# Altium footprint library pqm_v2_lib_footprints.PcbLib: 44 footprints (part 1 of 3)
Each footprint in its own frame and in the unit in brackets; x right, y up, seen from the top. Pads: shape width x height; smd on the part's side, far side on the other; paste and mask are expansions set on the pad; w line width, h text height; cw(c..) or ccw(c..) is an arc to the next point about the centre after c.
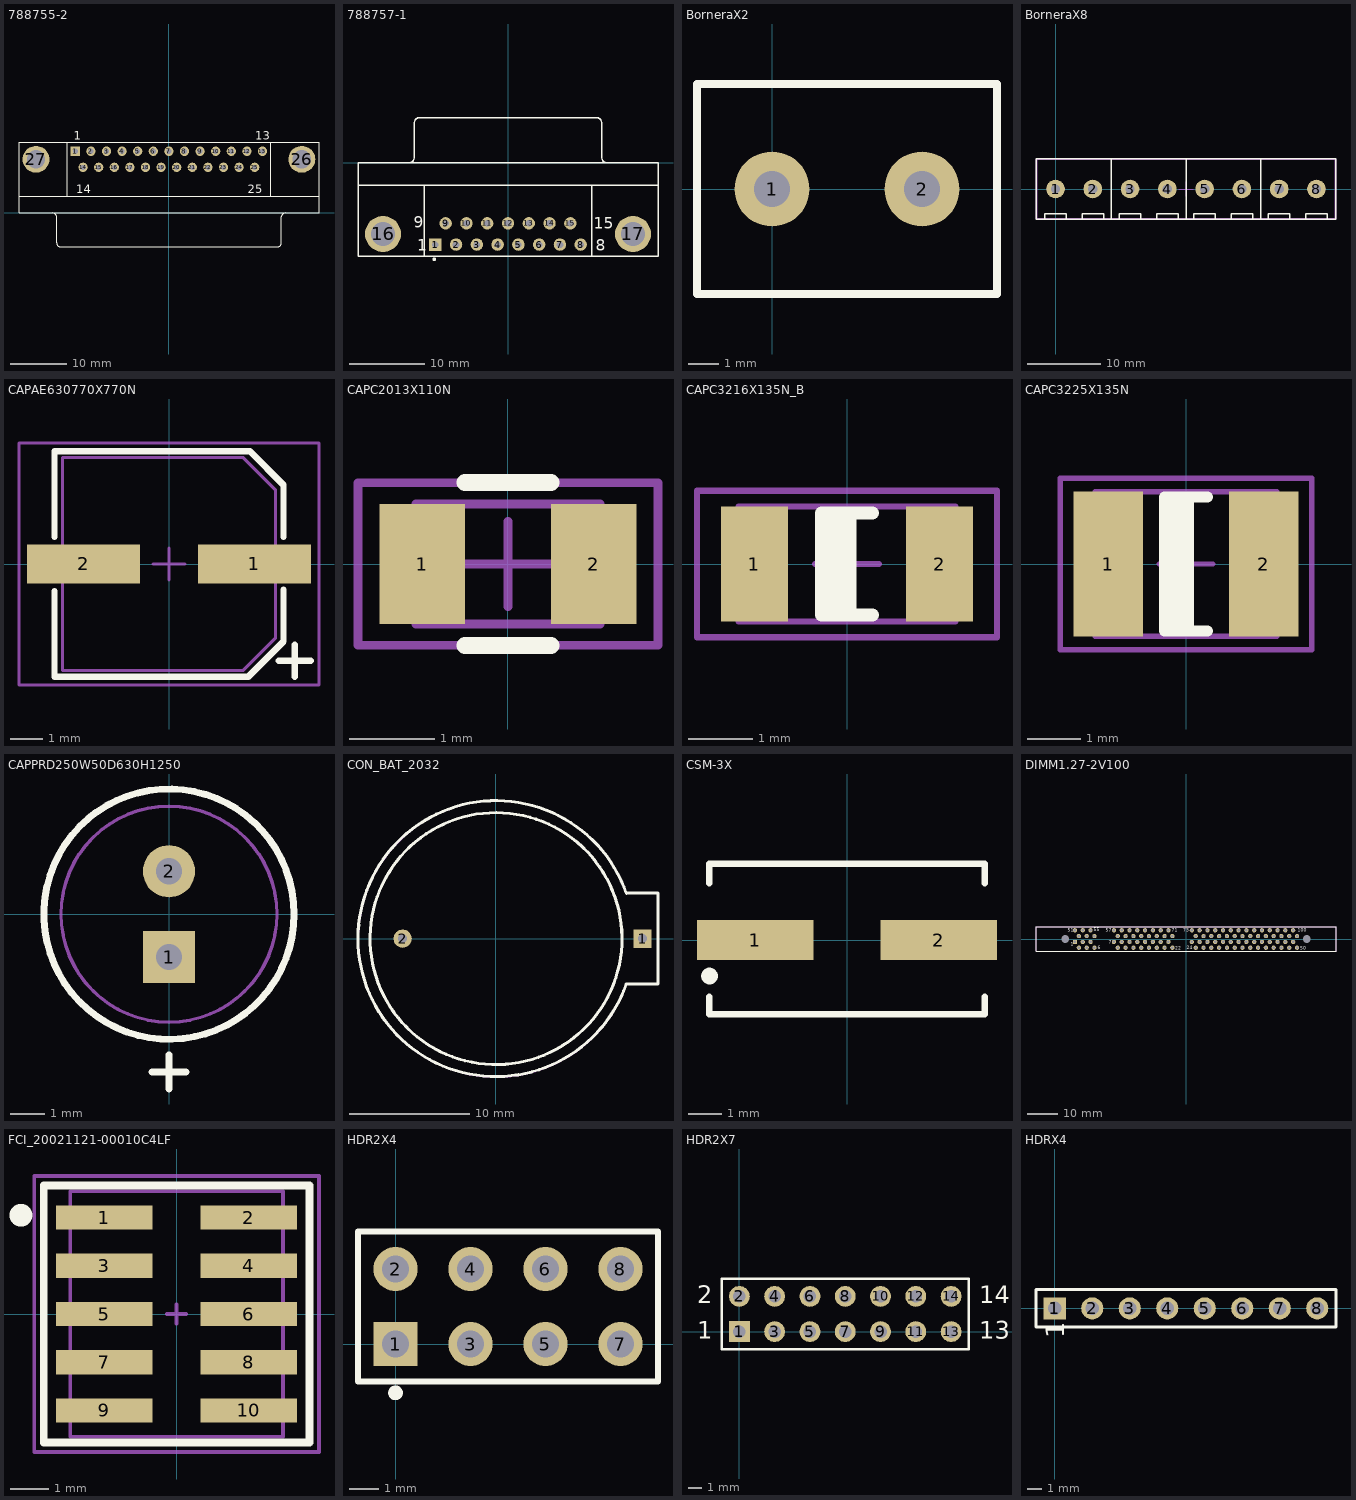
[diagram p0: the footprints below, top view; thin cyan lines are the x and y axes]

## 788755-2 [mil] "Connector; D Subminiature AMPLIMITE 2000; 25 Position; Right Angle"
height 501.97
pads (27):
  rect 65x65 hole 35: 1(-652.2,429.92)
  round 65 hole 35: 2(-543.5,429.92) 3(-434.8,429.92) 4(-326.1,429.92) 5(-217.4,429.92) 6(-108.7,429.92) 7(0,429.92) 8(108.7,429.92) 9(217.4,429.92) 10(326.1,429.92) 11(434.8,429.92) 12(543.5,429.92) 13(652.2,429.92) 14(-597.85,318.11) 15(-489.15,318.11) 16(-380.45,318.11) 17(-271.75,318.11) 18(-163.05,318.11) 19(-54.35,318.11) 20(54.35,318.11) 21(163.05,318.11) 22(271.75,318.11) 23(380.45,318.11) 24(489.15,318.11) 25(597.85,318.11)
  round 187.4 hole 128.35: 26(926.22,374.02) 27(-926.22,374.02)
Top Overlay:
  lines w7.87: -1044.57,118.11 1045.98,118.11 ; -810.12,-0.2 cw(c-810.12,-27.56) -782.76,-27.56 -782.76,-208.66 ; -782.56,-208.86 ccw(c-755.2,-208.86) -755.2,-236.22 756.61,-236.22 ccw(c756.61,-208.86) 783.98,-208.86 ; -707.95,118.11 -707.95,492.13 ; 709.37,118.11 709.37,492.13 ; 784.17,-208.66 784.17,-27.56 cw(c811.54,-27.56) 811.54,-0.2 ; -1044.57,0 -1044.57,492.13 1045.98,492.13 1045.98,0 -1044.57,0
  text "25" at 548.64,137.01 h59.06
  text "14" at -647.07,137.01 h59.06
  text "13" at 602.99,511.02 h59.06
  text "1" at -662.05,511.02 h59.06

## 788757-1 [mil] "Connector; D Subminiature AMPLIMITE 2000; 15 Position; Right Angle"
height 501.97
pads (17):
  rect 65x65 hole 35: 1(-381.69,-429.92)
  round 65 hole 35: 2(-272.64,-429.92) 3(-163.58,-429.92) 4(-54.53,-429.92) 5(54.53,-429.92) 6(163.58,-429.92) 7(272.64,-429.92) 8(381.69,-429.92) 9(-327.17,-318.11) 10(-218.11,-318.11) 11(-109.06,-318.11) 12(0,-318.11) 13(109.06,-318.11) 14(218.11,-318.11) 15(327.17,-318.11)
  round 188.98 hole 125.2: 16(-655.91,-374.02) 17(655.91,-374.02)
Top Overlay:
  circle w9.84: c-387.42,-507.5 r4.92
  lines w7.87: -787.4,-118.11 787.4,-118.11 ; -519.49,0.2 ccw(c-519.49,27.56) -492.13,27.56 -492.13,208.66 ; -491.93,208.86 cw(c-464.57,208.86) -464.57,236.22 464.57,236.22 cw(c464.57,208.86) 491.93,208.86 ; -438.58,-492.13 -438.58,-118.11 ; 438.58,-492.13 438.58,-118.11 ; 492.13,208.66 492.13,27.56 ccw(c519.49,27.56) 519.49,0.2 ; -787.4,-492.13 787.4,-492.13 787.4,0 -787.4,0 -787.4,-492.13
  text "9" at -495,-342.5 h59.06
  text "15" at 450,-347.5 h59.06
  text "8" at 460,-462.5 h59.06
  text "1" at -477.5,-462.5 h59.06

## BorneraX2 [mm]
pads (2):
  round 2.5 hole 1.2: 1(0,0) 2(5,0)
Top Overlay:
  lines w0.254: -2.5,-3.5 7.5,-3.5 7.5,3.5 -2.5,3.5 -2.5,-0.025 -2.5,-3.5
3D body: height 10, standoff 0, extent -2.375,-3.375 7.4,3.375

## BorneraX8 [mm]
pads (8):
  round 2.54 hole 1.27: 1(0,0) 2(5.08,0) 3(10.16,0) 4(15.24,0) 5(20.32,0) 6(25.4,0) 7(30.48,0) 8(35.56,0)
Top Overlay:
  lines w0.2: -1.46,-4.15 -1.46,-3.4 1.44,-3.4 1.44,-4.15 ; 3.64,-4.15 3.64,-3.4 6.54,-3.4 6.54,-4.15 ; 7.5,-4.15 17.78,-4.15 ; 7.5,4.15 17.78,4.15 ; 7.62,4.127 7.598,4.15 -2.66,4.15 -2.66,-4.15 7.69,-4.15 ; 7.627,-4.15 7.627,4.15 ; 8.7,-4.15 8.7,-3.4 11.6,-3.4 11.6,-4.15 ; 13.8,-4.15 13.8,-3.4 16.7,-3.4 16.7,-4.15 ; 17.66,-4.15 27.94,-4.15 ; 17.66,4.15 27.94,4.15 ; 17.787,-4.15 17.787,4.15 ; 18.86,-4.15 18.86,-3.4 21.76,-3.4 21.76,-4.15 ; 23.96,-4.15 23.96,-3.4 26.86,-3.4 26.86,-4.15 ; 27.82,-4.15 38.17,-4.15 ; 27.82,4.15 38.17,4.15 ; 27.947,-4.15 27.947,4.15 ; 29.02,-4.15 29.02,-3.4 31.92,-3.4 31.92,-4.15 ; 34.12,-4.15 34.12,-3.4 37.02,-3.4 37.02,-4.15 ; 38.22,-4.15 38.22,4.15
Mechanical 13:
  lines w0.2: -2.54,-4.05 -2.54,4.05 7.62,4.05 17.78,4.05 27.94,4.05 38.1,4.05 38.1,-4.05 27.94,-4.05 17.78,-4.05 7.62,-4.05 -2.54,-4.05
Mechanical 15:
  lines w0.1: 16.78,0 18.796,0 ; 17.78,-1.016 17.78,1
  lines w0.2: 7.5,-4.15 17.85,-4.15 ; 7.5,4.15 17.85,4.15 ; 7.69,-4.15 -2.66,-4.15 -2.66,4.15 7.69,4.15 ; 17.66,-4.15 28.01,-4.15 ; 17.66,4.15 28.01,4.15 ; 27.82,-4.15 38.17,-4.15 ; 27.82,4.15 38.17,4.15 ; 38.22,-4.15 38.22,4.15
3D body: height 10, standoff -3.5, extent -3.11,-4.05 7.62,4.05
3D body: height 10, standoff -3.5, extent 7.05,-4.05 17.78,4.05
3D body: height 10, standoff -3.5, extent 17.21,-4.05 27.94,4.05
3D body: height 10, standoff -3.5, extent 27.37,-4.05 38.1,4.05

## CAPAE630770X770N [mm] "SMD Aluminum Electrolytic Capacitor; Body: 6.3x7.7 mm (DxL) // Source: UD series, Nichicon"
height 7.7
pads (2):
  rect 3.5x1.2 smd: 1(2.65,0) 2(-2.65,0)
Top Overlay:
  lines w0.2: -3.55,-0.85 -3.55,-3.5 2.45,-3.5 3.55,-2.4 3.55,-0.8 ; -3.55,0.85 -3.55,3.5 2.5,3.5 3.55,2.45 3.55,0.85 ; 3.4,-3 4.4,-3 ; 3.9,-3.5 3.9,-2.5
Mechanical 13:
  lines w0.1: -3.5,-0.4 -3.5,0.4 -1.1,0.4 -1.1,-0.4 -3.5,-0.4 ; -3.3,-3.3 2.3,-3.3 3.3,-2.3 3.3,2.3 2.3,3.3 -3.3,3.3 -3.3,-3.3 ; 1.1,-0.4 1.1,0.4 3.5,0.4 3.5,-0.4 1.1,-0.4
Mechanical 15:
  lines w0.1: -0.5,0 0.5,0 ; 0,-0.5 0,0.5 ; -4.65,-3.75 -4.65,3.75 4.65,3.75 4.65,-3.75 -4.65,-3.75
3D body: height 7.7, standoff 0, extent -3.652,-3.3 3.648,3.3

## CAPC2013X110N [mm] "Chip Capacitor, 0805, Body 2.0x1.3mm, IPC Medium Density"
height 1.1
pads (2):
  rect 1x1.4 smd: 1(-1,0) 2(1,0)
Top Overlay:
  lines w0.2: -0.5,-0.95 0.5,-0.95 ; -0.5,0.95 0.5,0.95
Mechanical 13:
  lines w0.1: -1.075,-0.7 1.075,-0.7 1.075,0.7 -1.075,0.7 -1.075,-0.7
Mechanical 15:
  lines w0.1: -0.5,0 0.5,0 ; 0,-0.5 0,0.5 ; -1.75,-0.95 1.75,-0.95 1.75,0.95 -1.75,0.95 -1.75,-0.95
3D body: height 0.6, standoff 0, extent -1,-0.625 1,0.625

## CAPC3216X135N_B [mm] "Chip Capacitor, 1206, UL840 2mm, Body 3.2x1.6mm, IPC Medium Density"
height 1.35
pads (2):
  rect 1.05x1.8 smd: 1(-1.45,0) 2(1.45,0)
Top Overlay:
  rectangle: -0.4,-0.8 0.15,0.8
  lines w0.2: 0.4,-0.8 -0.4,-0.8 -0.4,0.8 0.4,0.8
Mechanical 13:
  lines w0.1: -1.7,-0.9 1.7,-0.9 1.7,0.9 -1.7,0.9 -1.7,-0.9
Mechanical 15:
  lines w0.1: -0.5,0 0.5,0 ; 0,-0.5 0,0.5 ; -2.35,-1.15 2.35,-1.15 2.35,1.15 -2.35,1.15 -2.35,-1.15
3D body: height 0.79, standoff 0.01, extent -1.6,-0.8 1.6,0.8

## CAPC3225X135N [mm] "Chip Capacitor, 1210, Body 3.2x2.5mm, IPC Medium Density"
height 1.35
pads (2):
  rect 1.3x2.7 smd: 1(-1.45,0) 2(1.45,0)
Top Overlay:
  rectangle: -0.4,-1.25 0.15,1.25
  lines w0.2: 0.4,-1.25 -0.4,-1.25 -0.4,1.25 0.4,1.25
Mechanical 13:
  lines w0.1: -1.7,-1.35 -1.7,1.35 1.7,1.35 1.7,-1.35 -1.7,-1.35
Mechanical 15:
  lines w0.1: -0.5,0 0.5,0 ; 0,-0.5 0,0.5 ; -2.35,-1.6 -2.35,1.6 2.35,1.6 2.35,-1.6 -2.35,-1.6
3D body: height 0.79, standoff 0.01, extent -1.6,-1.25 1.6,1.25

## CAPPRD250W50D630H1250 [mil] "Capacitor, Polarized Radial Diameter, 2.5 Lead Spacing, 0.5 Lead Width, 6.3 Diameter, 12.5 Height"
height 492.13
pads (2):
  rect 60x60 hole 30: 1(0,-49.21)
  round 60 hole 30: 2(0,49.21)
Top Overlay:
  circle w7.87: c0,0 r143.7
  lines w7.87: -19.68,-181.1 19.68,-181.1 ; 0,-200.79 0,-161.42
Mechanical 13:
  circle w3.94: c0,0 r124.02
Mechanical 15:
  circle w3.94: c0,0 r143.7
3D body: height 512.81, standoff -118.67, extent -125.01,-125.01 125.01,125.02

## CON_BAT_2032 [mil]
pads (2):
  rect 60x60 hole 30 square: 1(481.2,0)
  round 60 hole 30: 2(-306.2,0)
Top Overlay:
  lines w10: 413.61,2.49 cw(c0.24,0) 413.59,4.98 ; 427.35,-149.47 cw(c-0.02,0) 427.62,148.7 ; 427.74,-149.61 531.73,-149.61 531.73,149.61 430.24,149.61
Mechanical 13:
  lines w3.94: 427.95,148.8 ccw(c1.22,-2.5) 429.23,-150.12
Mechanical 15:
  lines w3.94: 427.35,-149.47 cw(c-0.02,0) 427.62,148.7
3D body: height 334.65, standoff -157.48, extent -450.33,-433.07 514.24,433.07

## CSM-3X [mm] "Quartz Crystal, SM; Body 7.00 mm x 4.10 mm x 2.30 mm"
height 4.3
pads (2):
  rect 3.5x1.2 smd: 1(-2.75,0) 2(2.75,0)
Top Overlay:
  circle w0.25: c-4.126,-1.079 r0.125
  lines w0.2: -4.127,-1.7 -4.127,-2.222 4.127,-2.222 4.127,-1.7 ; -4.127,1.7 -4.127,2.286 4.127,2.286 4.127,1.7
3D body: height 2.3, standoff 0, extent -3.8,-2.032 3.8,2.068

## DIMM1.27-2V100 [mm] "Connector; DIMM II; 100 Position; Vertical"
height 23.82
pads (102):
  rect 1.4x1.4 hole 0.81: 1(-36.195,-0.95)
  round 1.4 hole 0.81: 2(-34.925,-2.85) 3(-33.655,-0.95) 4(-32.385,-2.85) 5(-31.115,-0.95) 6(-29.845,-2.85) 7(-23.495,-0.95) 8(-22.225,-2.85) 9(-20.955,-0.95) 10(-19.685,-2.85) 11(-18.415,-0.95) 12(-17.145,-2.85) 13(-15.875,-0.95) 14(-14.605,-2.85) 15(-13.335,-0.95) 16(-12.065,-2.85) 17(-10.795,-0.95) 18(-9.525,-2.85) 19(-8.255,-0.95) 20(-6.985,-2.85) 21(-5.715,-0.95) 22(-4.445,-2.85) 23(1.905,-0.95) 24(3.175,-2.85) 25(4.445,-0.95) 26(5.715,-2.85) 27(6.985,-0.95) 28(8.255,-2.85) 29(9.525,-0.95) 30(10.795,-2.85) 31(12.065,-0.95) 32(13.335,-2.85) 33(14.605,-0.95) 34(15.875,-2.85) 35(17.145,-0.95) 36(18.415,-2.85) 37(19.685,-0.95) 38(20.955,-2.85) 39(22.225,-0.95) 40(23.495,-2.85) 41(24.765,-0.95) 42(26.035,-2.85) 43(27.305,-0.95) 44(28.575,-2.85) 45(29.845,-0.95) 46(31.115,-2.85) 47(32.385,-0.95) 48(33.655,-2.85) 49(34.925,-0.95) 50(36.195,-2.85) 51(-36.195,2.85) 52(-34.925,0.95) 53(-33.655,2.85) 54(-32.385,0.95) 55(-31.115,2.85) 56(-29.845,0.95) 57(-23.495,2.85) 58(-22.225,0.95) 59(-20.955,2.85) 60(-19.685,0.95) 61(-18.415,2.85) 62(-17.145,0.95) 63(-15.875,2.85) 64(-14.605,0.95) 65(-13.335,2.85) 66(-12.065,0.95) 67(-10.795,2.85) 68(-9.525,0.95) 69(-8.255,2.85) 70(-6.985,0.95) 71(-5.715,2.85) 72(-4.445,0.95) 73(1.905,2.85) 74(3.175,0.95) 75(4.445,2.85) 76(5.715,0.95) 77(6.985,2.85) 78(8.255,0.95) 79(9.525,2.85) 80(10.795,0.95) 81(12.065,2.85) 82(13.335,0.95) 83(14.605,2.85) 84(15.875,0.95) 85(17.145,2.85) 86(18.415,0.95) 87(19.685,2.85) 88(20.955,0.95) 89(22.225,2.85) 90(23.495,0.95) 91(24.765,2.85) 92(26.035,0.95) 93(27.305,2.85) 94(28.575,0.95) 95(29.845,2.85) 96(31.115,0.95) 97(32.385,2.85) 98(33.655,0.95) 99(34.925,2.85) 100(36.195,0.95)
  round 0 hole 2.54: 101(-39.365,0) 102(39.365,0)
Top Overlay:
  lines w0.2: -48.9,-4 -48.9,4 48.9,4 48.9,-4 -48.9,-4
  text "1" at -37.529,-2.222 h1.02
  text "51" at -38.544,2.413 h1.02
  text "6" at -28.765,-3.365 h1.02
  text "55" at -30.099,2.476 h1.02
  text "7" at -25.209,-1.587 h1.02
  text "57" at -26.162,2.349 h1.02
  text "22" at -3.429,-3.429 h1.02
  text "71" at -4.572,2.349 h1.02
  text "24" at 0.318,-3.302 h1.02
  text "73" at -0.889,2.413 h1.02
  text "100" at 36.449,2.286 h1.02
  text "50" at 37.274,-3.429 h1.02
Mechanical 13:
  lines w0.1: -48.9,-4 48.9,-4 48.9,4 -48.9,4 -48.9,-4
3D body: height 23.82, standoff 0, extent -48.9,-4 48.9,4

## FCI_20021121-00010C4LF [mm] "CONNECTOR, MICRO TERMINAL STRIP, 10POS, 2ROW, 1.27MM"
height 3.05
pads (10):
  rect 2.54x0.635 smd: 1(-1.905,2.54) 2(1.905,2.54) 3(-1.905,1.27) 4(1.905,1.27) 5(-1.905,0) 6(1.905,0) 7(-1.905,-1.27) 8(1.905,-1.27) 9(-1.905,-2.54) 10(1.905,-2.54)
Top Overlay:
  circle w0.5: c-4.1,2.6 r0.05
  lines w0.2: -3.5,-3.385 -3.5,3.385 3.5,3.385 3.5,-3.385 -3.5,-3.385
Mechanical 13:
  lines w0.1: -2.8,-3.235 -2.8,3.235 2.8,3.235 2.8,-3.235 -2.8,-3.235
Mechanical 15:
  lines w0.1: -0.25,0 0.25,0 ; 0,-0.25 0,0.25 ; -3.75,-3.635 -3.75,3.635 3.75,3.635 3.75,-3.635 -3.75,-3.635
3D body: height 4.48, standoff -0.02, extent -2.75,-3.185 2.75,3.165

## HDR2X4 [mm]
pads (8):
  rect 1.5x1.5 hole 0.9: 1(0,0)
  round 1.5 hole 0.9: 2(0,2.54) 3(2.54,0) 4(2.54,2.54) 5(5.08,0) 6(5.08,2.54) 7(7.62,0) 8(7.62,2.54)
Top Overlay:
  circle w0.25: c0.002,-1.651 r0.125
  lines w0.2: 8.826,-1.27 -1.27,-1.27 -1.27,3.81 8.89,3.81 8.89,-1.27
3D body: height 9.27, standoff -2.88, extent -1.27,-1.27 8.89,3.81

## HDR2X7 [mm]
pads (14):
  rect 1.5x1.5 hole 0.9: 1(0,0)
  round 1.5 hole 0.9: 2(0,2.54) 3(2.54,0) 4(2.54,2.54) 5(5.08,0) 6(5.08,2.54) 7(7.62,0) 8(7.62,2.54) 9(10.16,0) 10(10.16,2.54) 11(12.7,0) 12(12.7,2.54) 13(15.24,0) 14(15.24,2.54)
Top Overlay:
  lines w0.2: -1.27,-1.27 -1.27,3.81 16.51,3.81 16.51,-1.27 -1.27,-1.27
  text "2" at -3.048,2.032 h1.27
  text "1" at -3.048,-0.508 h1.27
  text "14" at 17.272,2.032 h1.27
  text "13" at 17.272,-0.508 h1.27
3D body: height 9.27, standoff -2.88, extent -1.27,-1.27 8.89,3.81
3D body: height 9.27, standoff -2.88, extent 8.89,-1.27 16.51,3.81

## HDRX4 [mm]
pads (8):
  rect 1.5x1.5 hole 0.9: 1(0,0)
  round 1.5 hole 0.9: 2(2.54,0) 3(5.08,0) 4(7.62,0) 5(10.16,0) 6(12.7,0) 7(15.24,0) 8(17.78,0)
Top Overlay:
  lines w0.2: -1.27,-1.27 -1.27,1.27 19.05,1.27 19.05,-1.27 -1.27,-1.27
  text "1" at 0.635,-2.032 h1.27